# Altium footprint library Components - 27.08.25 - 23.30.PcbLib: 4 footprints
Each footprint in its own frame and in the unit in brackets; x right, y up, seen from the top. Pads: shape width x height; smd on the part's side, far side on the other; paste and mask are expansions set on the pad; w line width, h text height; cw(c..) or ccw(c..) is an arc to the next point about the centre after c.
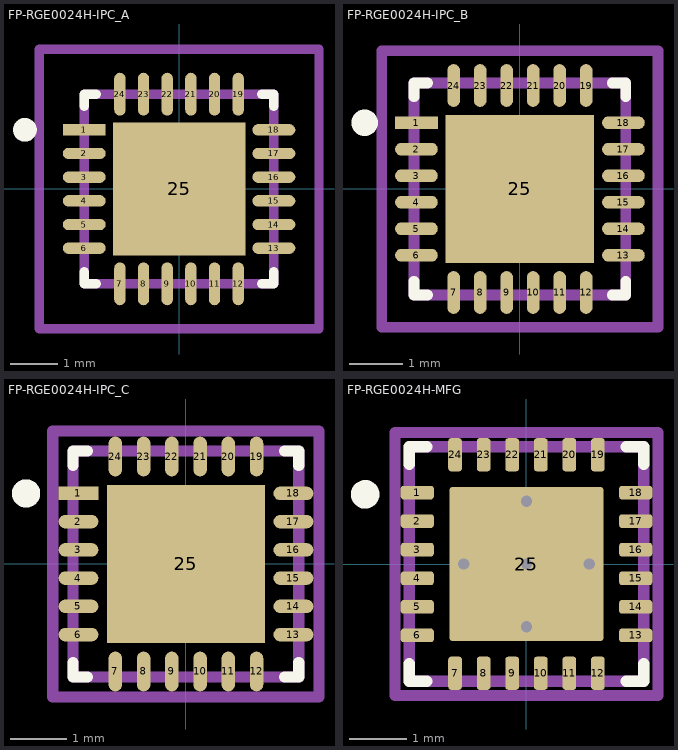
[diagram p0: the footprints below, top view; thin cyan lines are the x and y axes]

## FP-RGE0024H-IPC_A [mm]
pads (25):
  rect 0.906x0.239 smd paste+0 mask+0: 1(-2.003,1.25)
  rrect100% 0.906x0.239 smd paste+0 mask+0: 2(-2.003,0.75) 3(-2.003,0.25) 4(-2.003,-0.25) 5(-2.003,-0.75) 6(-2.003,-1.25) 13(2.003,-1.25) 14(2.003,-0.75) 15(2.003,-0.25) 16(2.003,0.25) 17(2.003,0.75) 18(2.003,1.25)
  rrect100% 0.239x0.906 smd paste+0 mask+0: 7(-1.25,-2.003) 8(-0.75,-2.003) 9(-0.25,-2.003) 10(0.25,-2.003) 11(0.75,-2.003) 12(1.25,-2.003) 19(1.25,2.003) 20(0.75,2.003) 21(0.25,2.003) 22(-0.25,2.003) 23(-0.75,2.003) 24(-1.25,2.003)
  rect 2.8x2.8 smd paste-1000 mask+0: 25(0,0)
Top Overlay:
  circle w0.25: c-3.256,1.25 r0.125
  lines w0.2: -2,-1.745 -2,-2 -1.745,-2 ; -2,1.745 -2,2 -1.745,2 ; 1.745,-2 2,-2 2,-1.745 ; 1.745,2 2,2 2,1.745
Top Paste:
  rectangle: -0.885,-0.885 0.885,0.885
Top Assembly:
  lines w0.2: -2.956,-2.956 -2.956,2.956 2.956,2.956 2.956,-2.956 -2.956,-2.956
  text ".Designator" at 0,0.188 h1
Top 3D Body:
  lines w0.2: -2,-2 -2,2 2,2 2,-2 -2,-2
Top Courtyard:
  lines w0.2: -2.956,-2.956 -2.956,2.956 2.956,2.956 2.956,-2.956 -2.956,-2.956
Top Component Center:
  lines w0.1: -0.5,0 0.5,0 ; 0,-0.5 0,0.5
3D body "IC_Texas_Instruments_TRS3122ERGER_eec.STEP": height 0.25, standoff 0, extent -2.956,-2.956 2.956,2.956

## FP-RGE0024H-IPC_B [mm]
pads (25):
  rect 0.806x0.239 smd paste+0 mask+0: 1(-1.953,1.25)
  rrect100% 0.806x0.239 smd paste+0 mask+0: 2(-1.953,0.75) 3(-1.953,0.25) 4(-1.953,-0.25) 5(-1.953,-0.75) 6(-1.953,-1.25) 13(1.953,-1.25) 14(1.953,-0.75) 15(1.953,-0.25) 16(1.953,0.25) 17(1.953,0.75) 18(1.953,1.25)
  rrect100% 0.239x0.806 smd paste+0 mask+0: 7(-1.25,-1.953) 8(-0.75,-1.953) 9(-0.25,-1.953) 10(0.25,-1.953) 11(0.75,-1.953) 12(1.25,-1.953) 19(1.25,1.953) 20(0.75,1.953) 21(0.25,1.953) 22(-0.25,1.953) 23(-0.75,1.953) 24(-1.25,1.953)
  rect 2.8x2.8 smd paste-1000 mask+0: 25(0,0)
Top Overlay:
  circle w0.25: c-2.931,1.25 r0.125
  lines w0.2: -2,-1.745 -2,-2 -1.745,-2 ; -2,1.745 -2,2 -1.745,2 ; 1.745,-2 2,-2 2,-1.745 ; 1.745,2 2,2 2,1.745
Top Paste:
  rectangle: -0.885,-0.885 0.885,0.885
Top Assembly:
  lines w0.2: -2.606,-2.606 2.606,-2.606 2.606,2.606 -2.606,2.606 -2.606,-2.606
  text ".Designator" at 0,0.188 h1
Top 3D Body:
  lines w0.2: -2,-2 2,-2 2,2 -2,2 -2,-2
Top Courtyard:
  lines w0.2: -2.606,-2.606 2.606,-2.606 2.606,2.606 -2.606,2.606 -2.606,-2.606
Top Component Center:
  lines w0.1: -0.5,0 0.5,0 ; 0,-0.5 0,0.5
3D body "IC_Texas_Instruments_TRS3122ERGER_eec.STEP": height 0.25, standoff 0, extent -2.606,-2.606 2.606,2.606

## FP-RGE0024H-IPC_C [mm]
pads (25):
  rect 0.706x0.239 smd paste+0 mask+0: 1(-1.903,1.25)
  rrect100% 0.706x0.239 smd paste+0 mask+0: 2(-1.903,0.75) 3(-1.903,0.25) 4(-1.903,-0.25) 5(-1.903,-0.75) 6(-1.903,-1.25) 13(1.903,-1.25) 14(1.903,-0.75) 15(1.903,-0.25) 16(1.903,0.25) 17(1.903,0.75) 18(1.903,1.25)
  rrect100% 0.239x0.706 smd paste+0 mask+0: 7(-1.25,-1.903) 8(-0.75,-1.903) 9(-0.25,-1.903) 10(0.25,-1.903) 11(0.75,-1.903) 12(1.25,-1.903) 19(1.25,1.903) 20(0.75,1.903) 21(0.25,1.903) 22(-0.25,1.903) 23(-0.75,1.903) 24(-1.25,1.903)
  rect 2.8x2.8 smd paste-1000 mask+0: 25(0,0)
Top Overlay:
  circle w0.25: c-2.831,1.25 r0.125
  lines w0.2: -2,-1.745 -2,-2 -1.745,-2 ; -2,1.745 -2,2 -1.745,2 ; 1.745,-2 2,-2 2,-1.745 ; 1.745,2 2,2 2,1.745
Top Paste:
  rectangle: -0.885,-0.885 0.885,0.885
Top Assembly:
  lines w0.2: -2.356,-2.356 2.356,-2.356 2.356,2.356 -2.356,2.356 -2.356,-2.356
  text ".Designator" at 0,0.188 h1
Top 3D Body:
  lines w0.2: -2,-2 2,-2 2,2 -2,2 -2,-2
Top Courtyard:
  lines w0.2: -2.356,-2.356 2.356,-2.356 2.356,2.356 -2.356,2.356 -2.356,-2.356
Top Component Center:
  lines w0.1: -0.5,0 0.5,0 ; 0,-0.5 0,0.5
3D body "IC_Texas_Instruments_TRS3122ERGER_eec.STEP": height 0.25, standoff 0, extent -2.356,-2.356 2.356,2.356

## FP-RGE0024H-MFG [mm]
pads (25):
  rrect42% 0.58x0.24 smd paste+0 mask+0: 1(-1.913,1.25) 2(-1.913,0.75) 3(-1.913,0.25) 4(-1.913,-0.25) 5(-1.913,-0.75) 6(-1.913,-1.25) 13(1.913,-1.25) 14(1.913,-0.75) 15(1.913,-0.25) 16(1.913,0.25) 17(1.913,0.75) 18(1.913,1.25)
  rrect42% 0.24x0.58 smd paste+0 mask+0: 7(-1.25,-1.913) 8(-0.75,-1.913) 9(-0.25,-1.913) 10(0.25,-1.913) 11(0.75,-1.913) 12(1.25,-1.913) 19(1.25,1.913) 20(0.75,1.913) 21(0.25,1.913) 22(-0.25,1.913) 23(-0.75,1.913) 24(-1.25,1.913)
  rrect4% 2.7x2.7 smd paste-1000 mask+0: 25(0,0)
via 0,1.1 diameter 0.5 hole 0.2
via 0,0 diameter 0.5 hole 0.2
via 0,-1.1 diameter 0.5 hole 0.2
via -1.1,0 diameter 0.5 hole 0.2
via 1.1,0 diameter 0.5 hole 0.2
Top Overlay:
  circle w0.25: c-2.825,1.22 r0.125
  lines w0.2: -2.05,-1.745 -2.05,-2.05 -1.745,-2.05 ; -2.05,1.745 -2.05,2.05 -1.745,2.05 ; 1.745,-2.05 2.05,-2.05 2.05,-1.745 ; 1.745,2.05 2.05,2.05 2.05,1.745
Top Paste:
  region: -0.1,0.15 -0.1,0.14 -0.108,0.122 -0.122,0.108 -0.14,0.1 -0.15,0.1 -1.238,0.1 -1.248,0.1 -1.266,0.108 -1.28,0.122 -1.288,0.14 -1.288,0.15 -1.288,1.238 -1.288,1.248 -1.28,1.266 -1.266,1.28 -1.248,1.288 -1.238,1.288 -0.15,1.288 -0.14,1.288 -0.122,1.28 -0.108,1.266 -0.1,1.248 -0.1,1.238
  region: -0.1,-0.15 -0.1,-1.238 -0.1,-1.248 -0.108,-1.266 -0.122,-1.28 -0.14,-1.288 -0.15,-1.288 -1.238,-1.288 -1.248,-1.288 -1.266,-1.28 -1.28,-1.266 -1.288,-1.248 -1.288,-1.238 -1.288,-0.15 -1.288,-0.14 -1.28,-0.122 -1.266,-0.108 -1.248,-0.1 -1.238,-0.1 -0.15,-0.1 -0.14,-0.1 -0.122,-0.108 -0.108,-0.122 -0.1,-0.14
  region: 0.1,0.15 0.1,1.238 0.1,1.248 0.108,1.266 0.122,1.28 0.14,1.288 0.15,1.288 1.238,1.288 1.248,1.288 1.266,1.28 1.28,1.266 1.288,1.248 1.288,1.238 1.288,0.15 1.288,0.14 1.28,0.122 1.266,0.108 1.248,0.1 1.238,0.1 0.15,0.1 0.14,0.1 0.122,0.108 0.108,0.122 0.1,0.14
  region: 0.15,-1.288 0.14,-1.288 0.122,-1.28 0.108,-1.266 0.1,-1.248 0.1,-1.238 0.1,-0.15 0.1,-0.14 0.108,-0.122 0.122,-0.108 0.14,-0.1 0.15,-0.1 1.238,-0.1 1.248,-0.1 1.266,-0.108 1.28,-0.122 1.288,-0.14 1.288,-0.15 1.288,-1.238 1.288,-1.248 1.28,-1.266 1.266,-1.28 1.248,-1.288 1.238,-1.288
Top Assembly:
  lines w0.2: -2.302,-2.302 2.302,-2.302 2.302,2.302 -2.302,2.302 -2.302,-2.302
  text ".Designator" at 0,0.188 h1
Top 3D Body:
  lines w0.2: -2.05,-2.05 2.05,-2.05 2.05,2.05 -2.05,2.05 -2.05,-2.05
Top Courtyard:
  lines w0.2: -2.302,-2.302 2.302,-2.302 2.302,2.302 -2.302,2.302 -2.302,-2.302
Top Component Center:
  lines w0.1: -0.5,0 0.5,0 ; 0,-0.5 0,0.5
3D body "IC_Texas_Instruments_TRS3122ERGER_eec.STEP": height 0.25, standoff 0, extent -2.302,-2.302 2.302,2.302